# Altium footprint library Gas_Sensors_Footprints.PcbLib: 3 footprints
Each footprint in its own frame and in the unit in brackets; x right, y up, seen from the top. Pads: shape width x height; smd on the part's side, far side on the other; paste and mask are expansions set on the pad; w line width, h text height; cw(c..) or ccw(c..) is an arc to the next point about the centre after c.
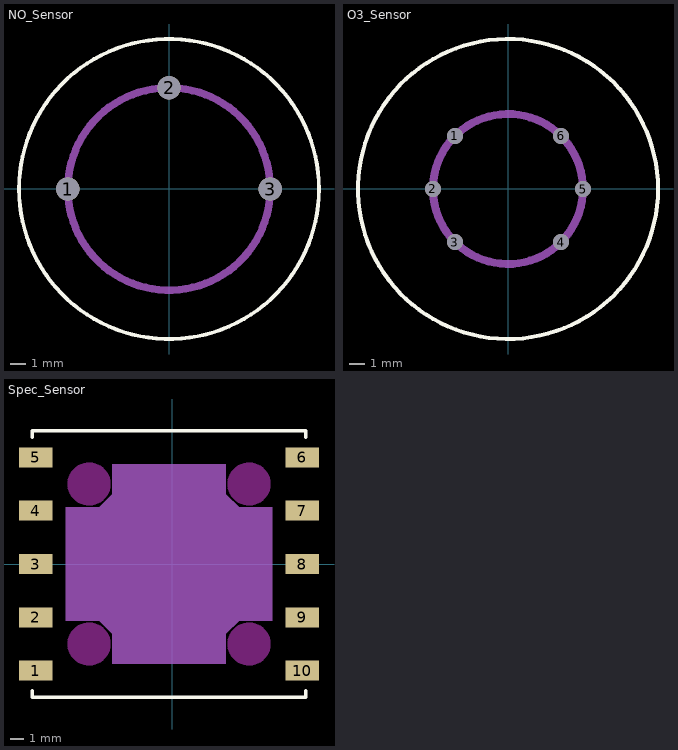
[diagram p0: the footprints below, top view; thin cyan lines are the x and y axes]

## NO_Sensor [mm] "GS+4NO"
height 20.4
pads (3):
  round 1.55 hole 1.55: 1(-6.75,0) 2(0,6.75) 3(6.75,0)
Top Overlay:
  circle w0.254: c0,0 r10
Mechanical 1:
  circle w0.5: c0,0 r6.75

## O3_Sensor [mm] "MQ131"
height 24
pads (6):
  round 1 hole 1: 1(-3.359,3.359) 2(-4.75,0) 3(-3.359,-3.359) 4(3.359,-3.359) 5(4.75,0) 6(3.359,3.359)
Top Overlay:
  circle w0.254: c0,0 r9.5
Mechanical 1:
  circle w0.5: c0,0 r4.75

## Spec_Sensor [mm] "Spec sensor package"
height 7.519
pads (10):
  rect 2.5x1.5 all layers, no hole mask+0.25: 1(-10.25,-8) 2(-10.25,-4) 3(-10.25,0) 4(-10.25,4) 5(-10.25,8) 6(9.75,8) 7(9.75,4) 8(9.75,0) 9(9.75,-4) 10(9.75,-8)
Top Overlay:
  lines w0.254: -10.5,-9.5 -10.5,-10 10,-10 10,-9.75 10,-9.5 ; -10.5,9.5 -10.5,10 10,10 10,9.5
Keep-Out Layer:
  circle w0.254: c-6.25,-6 r1.5
  circle w0.254: c-6.25,6 r1.5
  circle w0.254: c5.75,6 r1.5
  circle w0.254: c5.75,-6 r1.5
  region: 1.25,1.25
  region: -6.25,-7.5 -6.75,-7.5 -7,-7.25 -7.375,-6.875 -7.75,-6 -7.625,-5.375 -7,-4.75 -6.25,-4.5 -5.25,-4.75 -4.75,-5.583 -5,-6.75 -5.25,-7.25
  region: -6.25,4.5 -6.75,4.5 -7,4.75 -7.375,5.125 -7.75,6 -7.625,6.625 -7,7.25 -6.25,7.5 -5.25,7.25 -4.75,6.417 -5,5.25 -5.25,4.75
  region: 5.75,4.5 5.25,4.5 5,4.75 4.625,5.125 4.25,6 4.375,6.625 5,7.25 5.75,7.5 6.75,7.25 7.25,6.417 7,5.25 6.75,4.75
  region: 5.75,-7.5 5.25,-7.5 5,-7.25 4.625,-6.875 4.25,-6 4.375,-5.375 5,-4.75 5.75,-4.5 6.75,-4.75 7.25,-5.583 7,-6.75 6.75,-7.25
  region: -11,9.75
Mechanical 1:
  pour cut-out: -4.5,-4.25 -4.5,-5.25 -5.5,-4.25
  pour cut-out: -4.5,4.25 -5.5,4.25 -4.5,5.25
  pour cut-out: 4,-4.25 5,-4.25 4,-5.25
  pour cut-out: 6.25,-2
  pour cut-out: 4,4.25 4,5.25 5,4.25
  pour cut-out: -4.5,4.25 -8,4.25 -8,-4.25 -4.5,-4.25
  pour cut-out: 7.5,4.25 4,4.25 4,-4.25 7.5,-4.25
  pour cut-out: -4.5,7.5 4,7.5 4,-7.5 -4.5,-7.5